# Altium integrated library Actel ProASIC3.IntLib: 427 symbols (part 49 of 68)
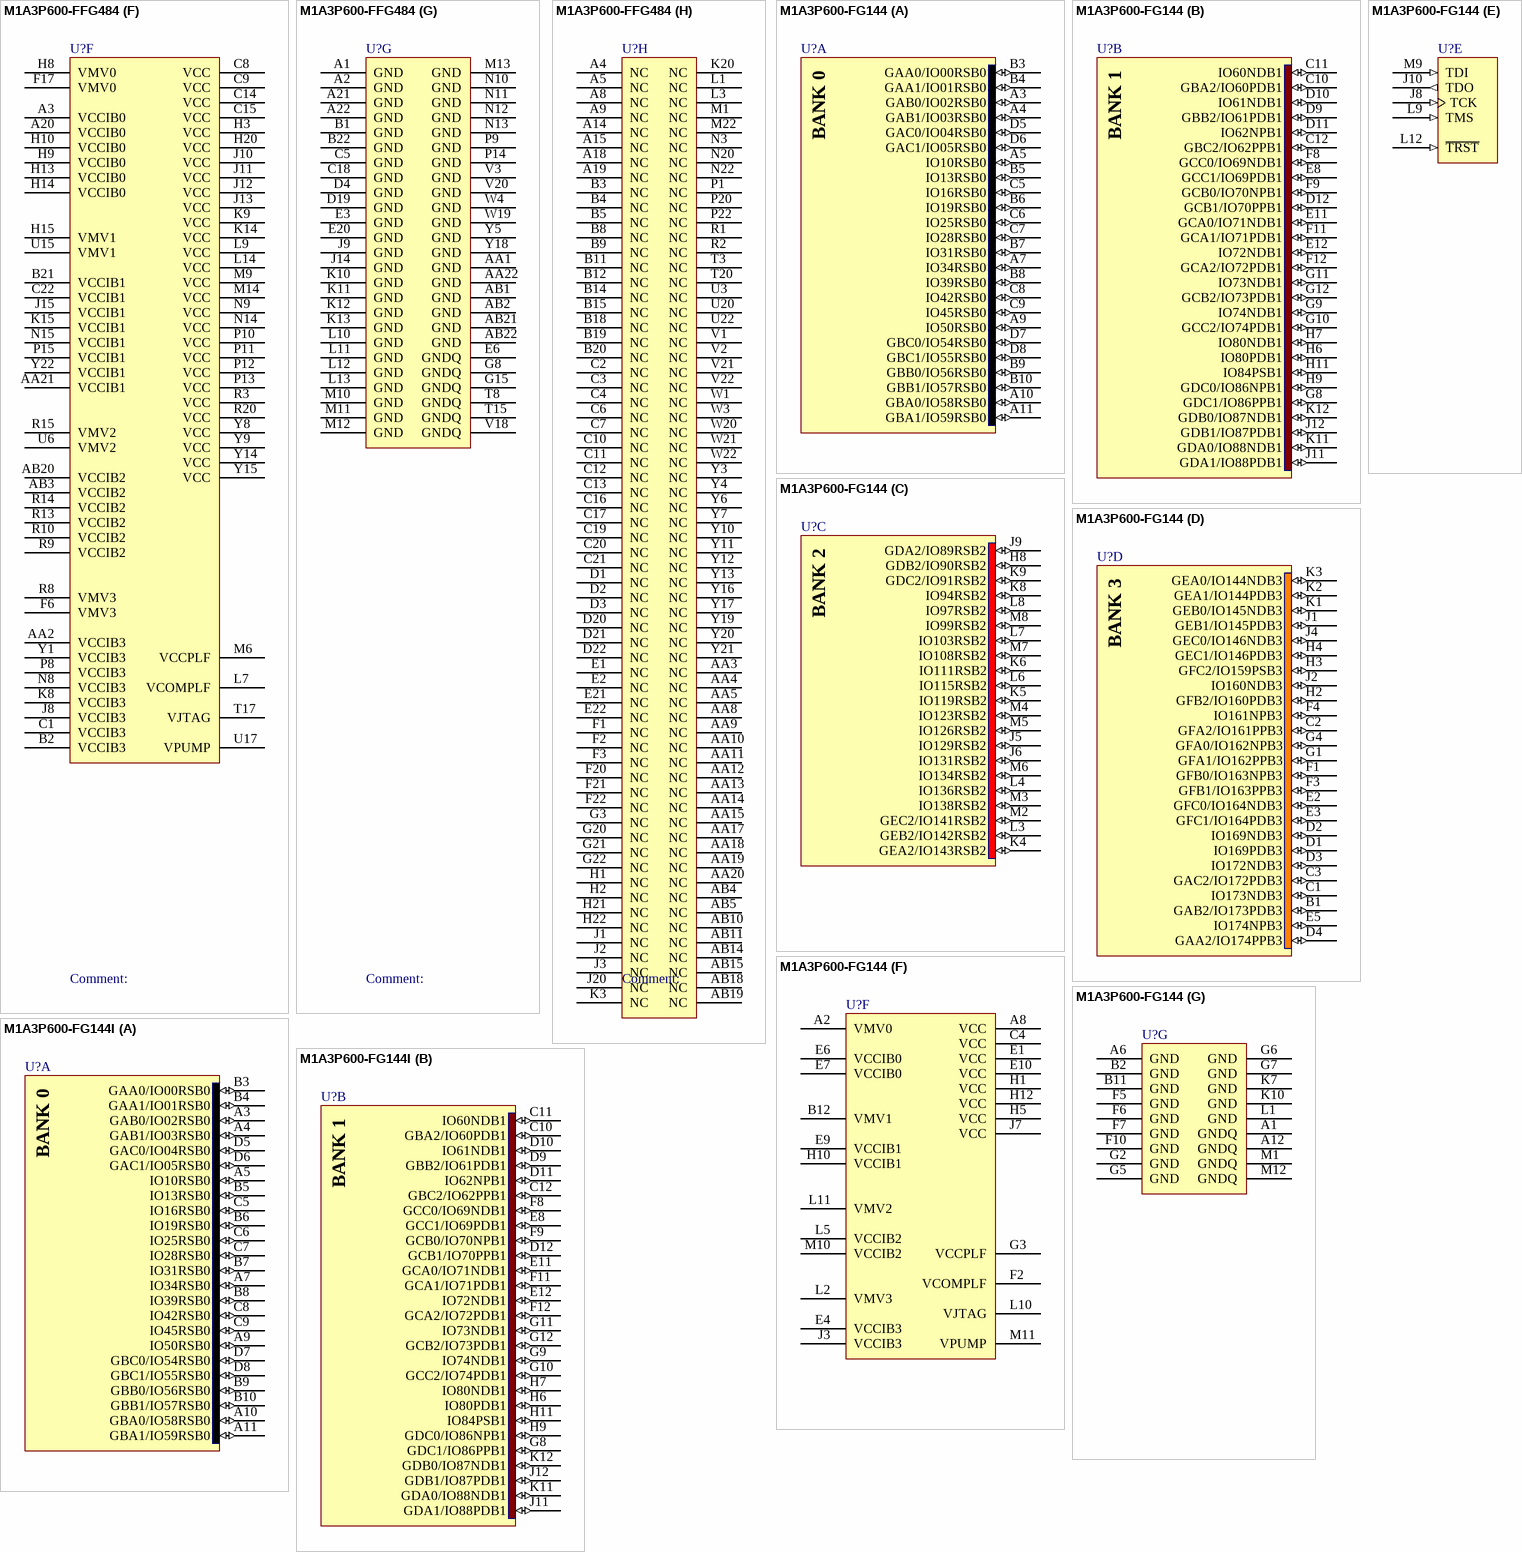
[diagram p425: symbols M1A3P600-FFG484 to M1A3P600-FG144I]

## M1A3P600-FFG484
designator U?
M1-Ready ProASIC3 Flash Family FPGA, 235 User IOs, 600K System Gates, 108 Kbits RAM, 1 Kbit Flash ROM, 1 PLL, 484-Ball FBGA, Commercial Grade; Published: 30-Apr-2009; DatasheetVersion: v1.1, Feb-2009; PackageVersion: v11.0, Feb-2009; PackageReference: FG484; Publisher: Altium Limited; PackageDescription: 484-Ball Fine Pitch Plastic Ball Grid Array (FG484) - Fully Populated; Code_JEDEC: MS-034-AAJ-1; Code_IPC: BGA100P22X22-484; ComponentLink1Description: Manufacturer Link; ComponentLink1URL: http://www.actel.com/products/pa3/; ComponentLink2Description: Datasheet; ComponentLink2URL: http://www.actel.com/documents/PA3_DS.pdf; ComponentLink3Description: Packaging Specification; ComponentLink3URL: http://www.actel.com/documents/PckgMechDrwngs.pdf
footprint FG484 (BGA, 484-Leads, Body 23x23mm, Pitch 1mm)
3D model M1A3P600-FG484 (484-Ball Fine Pitch Plastic Ball Grid Array (FG484) - Fully Populated)
signal-integrity model M1A3P600_FG484 (ProASIC3)
part A pins: A6 IO09RSB0 (io), A7 IO15RSB0 (io), A10 IO22RSB0 (io), A11 IO23RSB0 (io), A12 IO29RSB0 (io), A13 IO35RSB0 (io), A16 IO46RSB0 (io), A17 IO48RSB0 (io), B6 IO08RSB0 (io), B7 IO12RSB0 (io), B10 IO17RSB0 (io), B13 IO36RSB0 (io), B16 IO47RSB0 (io), B17 IO49RSB0 (io), D5 GAA0/IO00RSB0 (io), D6 GAA1/IO01RSB0 (io), D7 GAB0/IO02RSB0 (io), D8 IO11RSB0 (io), D9 IO16RSB0 (io), D10 IO18RSB0 (io), D11 IO28RSB0 (io), D12 IO34RSB0 (io), D13 IO37RSB0 (io), D14 IO41RSB0 (io), D15 IO43RSB0 (io), D16 GBB1/IO57RSB0 (io), D17 GBA0/IO58RSB0 (io), D18 GBA1/IO59RSB0 (io), E7 GAB1/IO03RSB0 (io), E8 IO13RSB0 (io), E9 IO14RSB0 (io), E10 IO21RSB0 (io), E11 IO27RSB0 (io), E12 IO32RSB0 (io), E13 IO38RSB0 (io), E14 IO42RSB0 (io), E15 GBC1/IO55RSB0 (io), E16 GBB0/IO56RSB0 (io), E17 IO52RSB0 (io), F7 IO07RSB0 (io), F8 GAC0/IO04RSB0 (io), F9 GAC1/IO05RSB0 (io), F10 IO20RSB0 (io), F11 IO24RSB0 (io), F12 IO33RSB0 (io), F13 IO39RSB0 (io), F14 IO44RSB0 (io), F15 GBC0/IO54RSB0 (io), F16 IO51RSB0 (io), G7 IO06RSB0 (io), G9 IO10RSB0 (io), G10 IO19RSB0 (io), G11 IO26RSB0 (io), G12 IO30RSB0 (io), G13 IO40RSB0 (io), G14 IO45RSB0 (io), G16 IO50RSB0 (io), G18 IO53RSB0 (io), H11 IO25RSB0 (io), H12 IO31RSB0 (io)
part B pins: E18 GBA2/IO60PDB1 (io), E19 IO60NDB1 (io), F18 IO61NPB1 (io), F19 IO63PDB1 (io), G17 GBB2/IO61PPB1 (io), G19 IO63NDB1 (io), H16 GBC2/IO62PDB1 (io), H17 IO67PPB1 (io), H18 IO64PPB1 (io), H19 IO66PDB1 (io), J16 IO62NDB1 (io), J17 IO64NPB1 (io), J18 IO65PPB1 (io), J19 IO66NDB1 (io), J21 IO68PDB1 (io), J22 IO68NDB1 (io), K16 GCC1/IO69PPB1 (io), K17 IO65NPB1 (io), K18 IO75PDB1 (io), K19 IO75NDB1 (io), K21 IO76NDB1 (io), K22 IO76PDB1 (io), L15 GCC0/IO69NPB1 (io), L16 GCB1/IO70PPB1 (io), L17 GCA0/IO71NPB1 (io), L18 IO67NPB1 (io), L19 GCB0/IO70NPB1 (io), L20 IO77PDB1 (io), L21 IO77NDB1 (io), L22 IO78NPB1 (io), M15 GCB2/IO73PPB1 (io), M16 GCA1/IO71PPB1 (io), M17 GCC2/IO74PPB1 (io), M18 IO80PPB1 (io), M19 GCA2/IO72PDB1 (io), M20 IO79PPB1 (io), M21 IO78PPB1 (io), N16 IO73NPB1 (io), N17 IO80NPB1 (io), N18 IO74NPB1 (io), N19 IO72NDB1 (io), N21 IO79NPB1 (io), P16 GDB0/IO87NPB1 (io), P17 IO85NDB1 (io), P18 IO85PDB1 (io), P19 IO84PDB1 (io), P21 IO81PDB1 (io), R17 GDB1/IO87PPB1 (io), R18 GDC1/IO86PDB1 (io), R19 IO84NDB1 (io), R21 IO81NDB1 (io), R22 IO82PDB1 (io), T18 GDC0/IO86NDB1 (io), T19 GDA1/IO88PDB1 (io), T21 IO83PDB1 (io), T22 IO82NDB1 (io), U19 GDA0/IO88NDB1 (io), U21 IO83NDB1 (io)
part C pins: AA6 IO135RSB2 (io), AA7 IO133RSB2 (io), AA16 IO101RSB2 (io), AB6 IO130RSB2 (io), AB7 IO128RSB2 (io), AB8 IO122RSB2 (io), AB9 IO116RSB2 (io), AB12 IO113RSB2 (io), AB13 IO112RSB2 (io), AB16 IO100RSB2 (io), AB17 IO95RSB2 (io), N7 IO129RSB2 (io), R11 IO117RSB2 (io), R12 IO110RSB2 (io), R16 IO94RSB2 (io), T7 IO140RSB2 (io), T9 GEA2/IO143RSB2 (io), T10 IO126RSB2 (io), T11 IO120RSB2 (io), T12 IO108RSB2 (io), T13 IO103RSB2 (io), T14 IO99RSB2 (io), T16 IO92RSB2 (io), U7 IO138RSB2 (io), U8 IO136RSB2 (io), U9 IO131RSB2 (io), U10 IO124RSB2 (io), U11 IO119RSB2 (io), U12 IO107RSB2 (io), U13 IO104RSB2 (io), U14 IO97RSB2 (io), V6 IO139RSB2 (io), V7 GEC2/IO141RSB2 (io), V8 IO132RSB2 (io), V9 IO127RSB2 (io), V10 IO121RSB2 (io), V11 IO114RSB2 (io), V12 IO109RSB2 (io), V13 IO105RSB2 (io), V14 IO98RSB2 (io), V15 IO96RSB2 (io), V16 GDB2/IO90RSB2 (io), W5 IO137RSB2 (io), W6 GEB2/IO142RSB2 (io), W7 IO134RSB2 (io), W8 IO125RSB2 (io), W9 IO123RSB2 (io), W10 IO118RSB2 (io), W11 IO115RSB2 (io), W12 IO111RSB2 (io), W13 IO106RSB2 (io), W14 IO102RSB2 (io), W15 GDC2/IO91RSB2 (io), W16 IO93RSB2 (io), W17 GDA2/IO89RSB2 (io)
part D pins: E4 GAB2/IO173PDB3 (io), E5 GAA2/IO174PDB3 (io), F4 IO173NDB3 (io), F5 IO174NDB3 (io), G1 IO170NDB3 (io), G2 IO170PDB3 (io), G4 IO171NDB3 (io), G5 IO171PDB3 (io), G6 GAC2/IO172PDB3 (io), H4 IO166PDB3 (io), H5 IO167NPB3 (io), H6 IO172NDB3 (io), H7 IO169NDB3 (io), J4 IO166NDB3 (io), J5 IO168NPB3 (io), J6 IO167PPB3 (io), J7 IO169PDB3 (io), K1 IO157PDB3 (io), K2 IO157NDB3 (io), K4 IO165NDB3 (io), K5 IO165PDB3 (io), K6 IO168PPB3 (io), K7 GFC1/IO164PPB3 (io), L2 IO155PDB3 (io), L4 GFB0/IO163NPB3 (io), L5 GFA0/IO162NDB3 (io), L6 GFB1/IO163PPB3 (io), L8 GFC0/IO164NPB3 (io), M2 IO155NDB3 (io), M3 IO158NPB3 (io), M4 GFA2/IO161PPB3 (io), M5 GFA1/IO162PDB3 (io), M7 IO160NDB3 (io), M8 GFB2/IO160PDB3 (io), N1 IO154NDB3 (io), N2 IO154PDB3 (io), N4 GFC2/IO159PDB3 (io), N5 IO161NPB3 (io), N6 IO156PPB3 (io), P2 IO153PDB3 (io), P3 IO153NDB3 (io), P4 IO159NDB3 (io), P5 IO156NPB3 (io), P6 IO151PPB3 (io), P7 IO158PPB3 (io), R4 IO150PDB3 (io), R5 IO151NPB3 (io), R6 IO147NPB3 (io), R7 GEC0/IO146NPB3 (io), T1 IO152PDB3 (io), T2 IO152NDB3 (io), T4 IO150NDB3 (io), T5 IO147PPB3 (io), T6 GEC1/IO146PPB3 (io), U1 IO149PDB3 (io), U2 IO149NDB3 (io), U4 GEB1/IO145PDB3 (io), U5 GEB0/IO145NDB3 (io), V4 GEA1/IO144PDB3 (io), V5 GEA0/IO144NDB3 (io), W2 IO148PDB3 (io), Y2 IO148NDB3 (io)
part E pins: U16 TCK (in), U18 ~{TRST} (in), V17 TDI (in), V19 TDO (out), W18 TMS (in)
part F pins: A3 VCCIB0 (power), A20 VCCIB0 (power), AA2 VCCIB3 (power), AA21 VCCIB1 (power), AB3 VCCIB2 (power), AB20 VCCIB2 (power), B2 VCCIB3 (power), B21 VCCIB1 (power), C1 VCCIB3 (power), C8 VCC (power), C9 VCC (power), C14 VCC (power), C15 VCC (power), C22 VCCIB1 (power), F6 VMV3 (power), F17 VMV0 (power), H3 VCC (power), H8 VMV0 (power), H9 VCCIB0 (power), H10 VCCIB0 (power), H13 VCCIB0 (power), H14 VCCIB0 (power), H15 VMV1 (power), H20 VCC (power), J8 VCCIB3 (power), J10 VCC (power), J11 VCC (power), J12 VCC (power), J13 VCC (power), J15 VCCIB1 (power), K8 VCCIB3 (power), K9 VCC (power), K14 VCC (power), K15 VCCIB1 (power), L7 VCOMPLF (power), L9 VCC (power), L14 VCC (power), M6 VCCPLF (power), M9 VCC (power), M14 VCC (power), N8 VCCIB3 (power), N9 VCC (power), N14 VCC (power), N15 VCCIB1 (power), P8 VCCIB3 (power), P10 VCC (power), P11 VCC (power), P12 VCC (power), P13 VCC (power), P15 VCCIB1 (power), R3 VCC (power), R8 VMV3 (power), R9 VCCIB2 (power), R10 VCCIB2 (power), R13 VCCIB2 (power), R14 VCCIB2 (power), R15 VMV2 (power), R20 VCC (power), T17 VJTAG (power), U6 VMV2 (power), U15 VMV1 (power), U17 VPUMP (power), Y1 VCCIB3 (power), Y8 VCC (power), Y9 VCC (power), Y14 VCC (power), Y15 VCC (power), Y22 VCCIB1 (power)
part G pins: A1 GND (power), A2 GND (power), A21 GND (power), A22 GND (power), AA1 GND (power), AA22 GND (power), AB1 GND (power), AB2 GND (power), AB21 GND (power), AB22 GND (power), B1 GND (power), B22 GND (power), C5 GND (power), C18 GND (power), D4 GND (power), D19 GND (power), E3 GND (power), E6 GNDQ (power), E20 GND (power), G8 GNDQ (power), G15 GNDQ (power), J9 GND (power), J14 GND (power), K10 GND (power), K11 GND (power), K12 GND (power), K13 GND (power), L10 GND (power), L11 GND (power), L12 GND (power), L13 GND (power), M10 GND (power), M11 GND (power), M12 GND (power), M13 GND (power), N10 GND (power), N11 GND (power), N12 GND (power), N13 GND (power), P9 GND (power), P14 GND (power), T8 GNDQ (power), T15 GNDQ (power), V3 GND (power), V18 GNDQ (power), V20 GND (power), W4 GND (power), W19 GND (power), Y5 GND (power), Y18 GND (power)
part H pins: A4 NC, A5 NC, A8 NC, A9 NC, A14 NC, A15 NC, A18 NC, A19 NC, AA3 NC, AA4 NC, AA5 NC, AA8 NC, AA9 NC, AA10 NC, AA11 NC, AA12 NC, AA13 NC, AA14 NC, AA15 NC, AA17 NC, AA18 NC, AA19 NC, AA20 NC, AB4 NC, AB5 NC, AB10 NC, AB11 NC, AB14 NC, AB15 NC, AB18 NC, AB19 NC, B3 NC, B4 NC, B5 NC, B8 NC, B9 NC, B11 NC, B12 NC, B14 NC, B15 NC, B18 NC, B19 NC, B20 NC, C2 NC, C3 NC, C4 NC, C6 NC, C7 NC, C10 NC, C11 NC, C12 NC, C13 NC, C16 NC, C17 NC, C19 NC, C20 NC, C21 NC, D1 NC, D2 NC, D3 NC, D20 NC, D21 NC, D22 NC, E1 NC, E2 NC, E21 NC, E22 NC, F1 NC, F2 NC, F3 NC, F20 NC, F21 NC, F22 NC, G3 NC, G20 NC, G21 NC, G22 NC, H1 NC, H2 NC, H21 NC, H22 NC, J1 NC, J2 NC, J3 NC, J20 NC, K3 NC, K20 NC, L1 NC, L3 NC, M1 NC, M22 NC, N3 NC, N20 NC, N22 NC, P1 NC, P20 NC, P22 NC, R1 NC, R2 NC, T3 NC, T20 NC, U3 NC, U20 NC, U22 NC, V1 NC, V2 NC, V21 NC, V22 NC, W1 NC, W3 NC, W20 NC, W21 NC, W22 NC, Y3 NC, Y4 NC, Y6 NC, Y7 NC, Y10 NC, Y11 NC, Y12 NC, Y13 NC, Y16 NC, Y17 NC, Y19 NC, Y20 NC, Y21 NC
part A text: BANK 0
part B text: BANK 1
part C text: BANK 2
part D text: BANK 3